# EAGLE library part BPS-2258 (library misc)
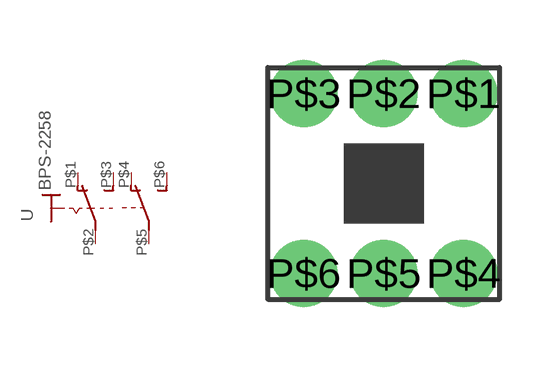
[diagram p0: symbol with the pads of BPS-2258; footprint BPS-2258]

Designator prefix -

## BPS-2258  [BPS-2258]
P$1  O  pas
P$2  P  pas
P$3  S  pas
P$4  O1  pas
P$5  P1  pas
P$6  S1  pas

## Footprint BPS-2258 (pad centres in mm)
drill 1 pad 1.676: P$1 2,2.5; P$2 0,2.5; P$3 -2,2.5; P$4 2,-2; P$5 0,-2; P$6 -2,-2